# Altium footprint library adafruit.PCBLIB: 643 footprints (part 37 of 41)
Each footprint in its own frame and in the unit in brackets; x right, y up, seen from the top. Pads: shape width x height; smd on the part's side, far side on the other; paste and mask are expansions set on the pad; w line width, h text height; cw(c..) or ccw(c..) is an arc to the next point about the centre after c.
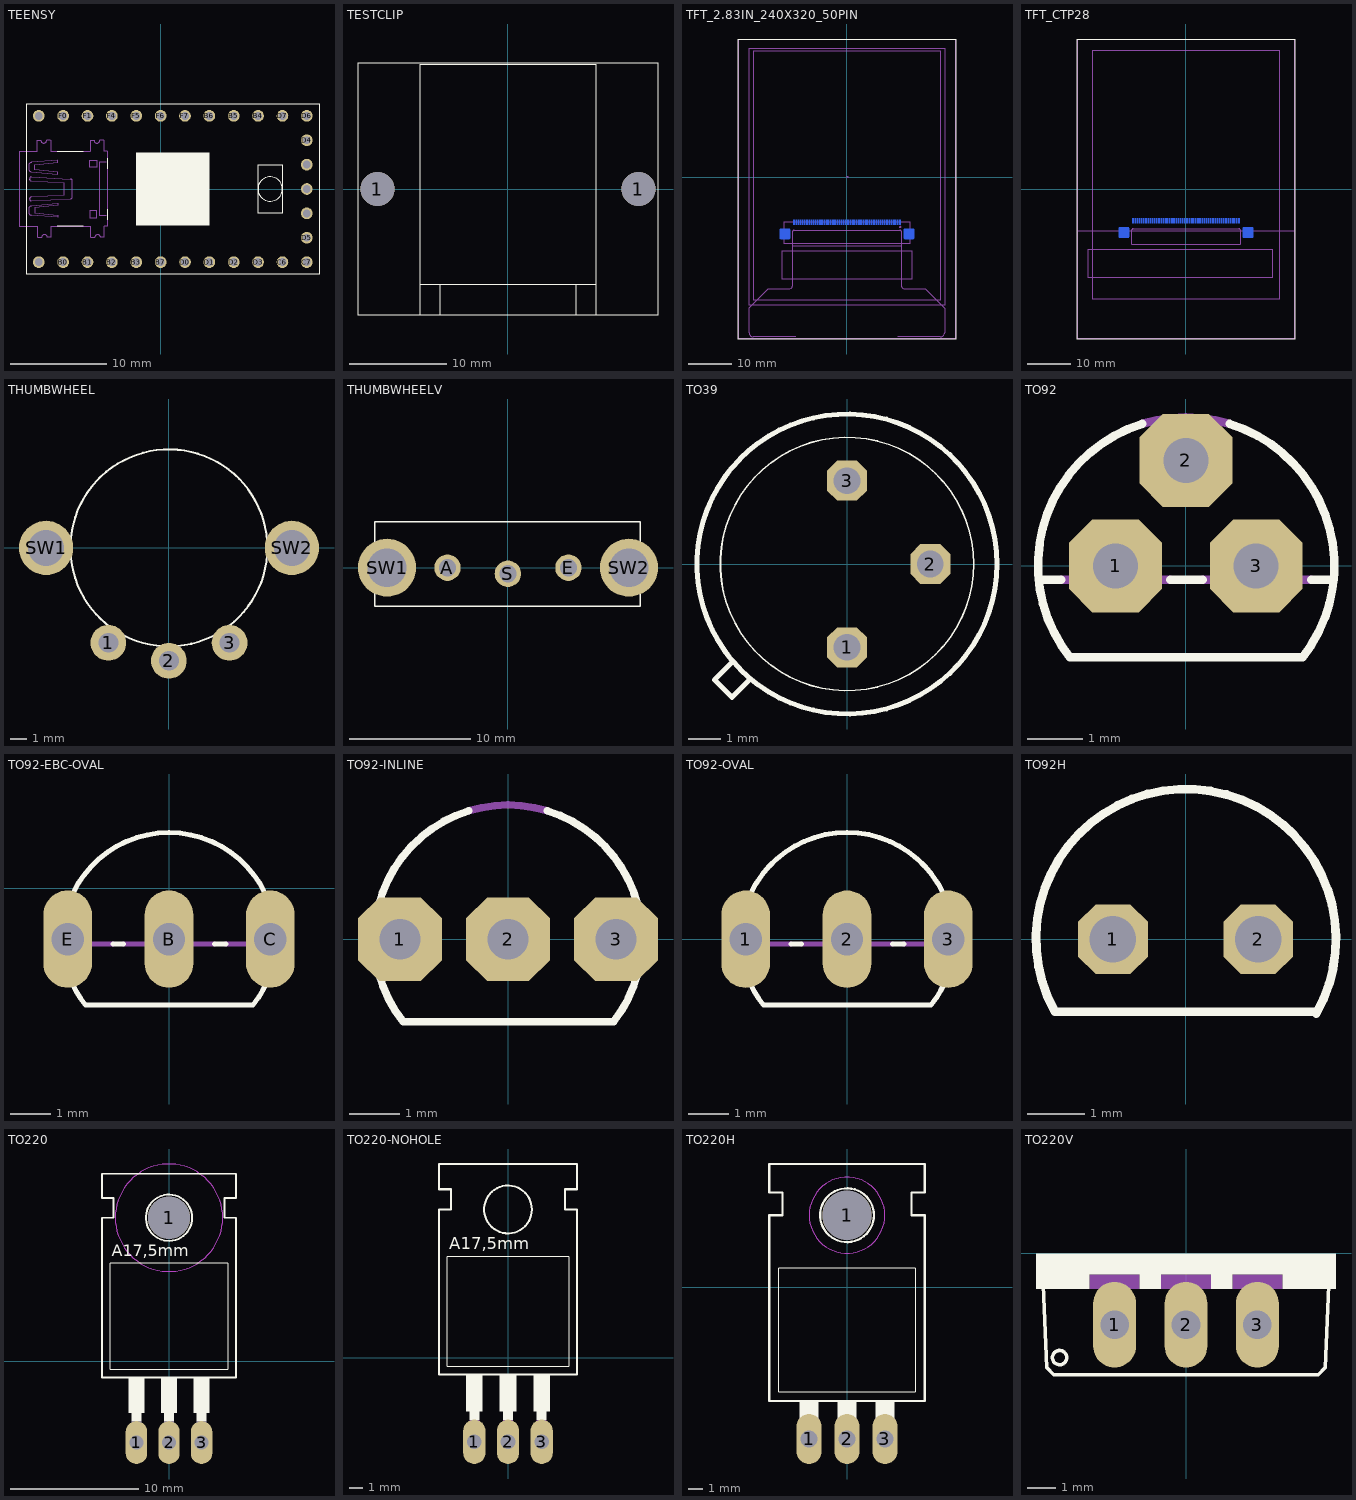
[diagram p36: the footprints below, top view; thin cyan lines are the x and y axes]

## TEENSY [mil]
pads (29):
  round 48 hole 32: B0(-400,-300) B1(-300,-300) B2(-200,-300) B3(-100,-300) B4(400,300) B5(300,300) B6(200,300) B7(0,-300) C6(500,-300) C7(600,-300) D0(100,-300) D1(200,-300) D2(300,-300) D3(400,-300) D4(600,200) D5(600,-200) D6(600,300) D7(500,300) F0(-400,300) F1(-300,300) F4(-200,300) F5(-100,300) F6(0,300) F7(100,300) GND(-500,-300) GND2(600,0) RST(600,100) VCC(600,-100) VCC1(-500,300)
Top Overlay:
  circle w5: c450,0 r50
  rectangle: -100,-150 200,150
  lines w4: -538.04,41 -538.04,41
  lines w5: -423.62,-153.54 -317.32,-153.54 ; -423.62,154 -317.32,154 ; -218.9,-125.98 -218.9,-82.68 ; -218.9,83 -218.9,126 ; -550,-350 650,-350 650,350 -550,350 -550,-350 ; 400,-100 500,-100 500,100 400,100 400,-100
Courtyard Bottom:
  lines w4: -505.49,154 -505.49,200 ; -505.12,200 -491.34,200 ccw(c-479.53,200) -467.72,200 -451.97,200 ; -504.69,-198.03 -504.69,-152.76 ; -503.94,-198.82 -488.19,-198.82 cw(c-476.38,-198.82) -464.57,-198.82 -450.79,-198.82 ; -451.21,154 -451.21,200 ; -450.42,-198.03 -450.42,-152.76 ; -287.38,154 -287.38,200 ; -287.01,200 -273.23,200 ccw(c-261.42,200) -249.61,200 -233.86,200 ; -286.58,-198.03 -286.58,-152.76 ; -285.83,-198.82 -270.08,-198.82 cw(c-258.27,-198.82) -246.46,-198.82 -232.68,-198.82 ; -233.1,154 -233.1,200 ; -232.31,-198.03 -232.31,-152.76 ; -222.83,-108.27 -252.36,-108.27 -252.36,109 -222.83,109 ; -540.08,-100.14 ccw(c-528.98,-96.74) -529.86,-108.31 -421.54,-116.49 -421.54,-108.31 -515.56,-98.1 -515.56,-77.66 -421.54,-67.44 -421.54,-59.26 -529.86,-69.48 ccw(c-528.98,-81.06) -540.08,-77.66 ccw(c-503.42,-88.9) -540.08,-100.14 ; -540.08,78 cw(c-502.58,89.5) -540.08,101 cw(c-529.11,97.52) -529.86,109 -421.54,117 -421.54,109 -515.56,99 -515.56,78 -421.54,68 -421.54,60 -529.86,70 cw(c-529.11,81.48) -540.08,78 ; -538.04,-40.87 ccw(c-529.86,-40.87) -529.86,-49.04 -370.44,-40.87 ccw(c-370.92,-32.22) -362.27,-32.69 -362.27,33 ccw(c-370.81,32.44) -370.44,41 -529.86,50 ccw(c-529.45,41.41) -538.04,41 ccw(c-529.95,41.09) -529.86,33 -394.97,25 -394.97,-24.52 -529.86,-32.69 ccw(c-529.86,-40.87) -538.04,-40.87 ; -291.73,-118.11 -291.73,-88.58 -262.2,-88.58 -262.2,-118.11 -291.73,-118.11 ; -291.73,89 -262.2,89 -262.2,119 -291.73,119 -291.73,89
  lines w5: -581.1,-153.54 -506.3,-153.54 ; -581.1,154 -506.3,154 ; -450.79,154 -289.37,154 ; -448.82,-153.54 -287.4,-153.54 ; -232.68,154 -218.9,154 ; -230.71,-153.54 -218.9,-153.54
Mech43:
  lines w5: -581.1,-153.54 -581.1,154 ; -218.9,-153.54 -218.9,154

## TESTCLIP [mil]
pads (2):
  round 138 hole 138: 1(-527.56,0) 1(528,0)
Top Overlay:
  lines w5: -354.33,-507.87 -606.3,-507.87 -606.3,508 607,508 607,-507.87 355,-507.87 ; -354.33,-507.87 -275.59,-507.87 ; -354.33,-507.87 -354.33,-385.83 ; -354.33,-385.83 -354.33,504 355,504 355,-385.83 ; -354.33,-385.83 -275.59,-385.83 ; -275.59,-507.87 276,-507.87 ; -275.59,-507.87 -275.59,-385.83 ; -275.59,-507.87 276,-507.87 ; -275.59,-385.83 276,-385.83 ; 276,-507.87 355,-507.87 ; 276,-507.87 276,-385.83 ; 276,-385.83 355,-385.83 ; 355,-507.87 355,-385.83

## TFT_2.83IN_240X320_50PIN [mil]
pads (52):
  rect 11x48 smd far side: 1(483,-409.06) 2(463,-409.06) 3(443,-409.06) 4(424,-409.06) 5(404,-409.06) 6(384,-409.06) 7(365,-409.06) 8(345,-409.06) 9(325,-409.06) 10(306,-409.06) 11(286,-409.06) 12(266,-409.06) 13(247,-409.06) 14(227,-409.06) 15(207,-409.06) 16(188,-409.06) 17(168,-409.06) 18(148,-409.06) 19(128,-409.06) 20(109,-409.06) 21(89,-409.06) 22(69,-409.06) 23(50,-409.06) 24(30,-409.06) 25(10,-409.06) 26(-9.84,-409.06) 27(-29.53,-409.06) 28(-49.21,-409.06) 29(-68.9,-409.06) 30(-88.58,-409.06) 31(-108.27,-409.06) 32(-127.95,-409.06) 33(-147.64,-409.06) 34(-167.32,-409.06) 35(-187.01,-409.06) 36(-206.69,-409.06) 37(-226.38,-409.06) 38(-246.06,-409.06) 39(-265.75,-409.06) 40(-285.43,-409.06) 41(-305.12,-409.06) 42(-324.8,-409.06) 43(-344.49,-409.06) 44(-364.17,-409.06) 45(-383.86,-409.06) 46(-403.54,-409.06) 47(-423.23,-409.06) 48(-442.91,-409.06) 49(-462.6,-409.06) 50(-482.28,-409.06)
  rrect25% 95x95 smd far side: PAD1(565,-515.35) PAD2(-564.96,-515.35)
Top Overlay:
  lines w5: -988.19,-1472.44 989,-1472.44 989,1260 -988.19,1260 -988.19,-1472.44
Bottom Overlay:
  lines w5: -582.68,-574.41 -582.68,-609.84 583,-609.84 583,-574.41 ; -582.68,-456.3 -582.68,-405.12 -500,-405.12 ; 497,-405.12 583,-405.12 583,-456.3
Bottom Solder:
  rectangle: -488.19,-435.04 -476.38,-383.86
  rectangle: -468.5,-435.04 -456.69,-383.86
  rectangle: -448.82,-435.04 -437.01,-383.86
  rectangle: -409.45,-435.04 -397.64,-383.86
  rectangle: -429.13,-435.04 -417.32,-383.86
  rectangle: -389.76,-435.04 -377.95,-383.86
  rectangle: -370.08,-435.04 -358.27,-383.86
  rectangle: -350.39,-435.04 -338.58,-383.86
  rectangle: -330.71,-435.04 -318.9,-383.86
  rectangle: -291.34,-435.04 -279.53,-383.86
  rectangle: -311.02,-435.04 -299.21,-383.86
  rectangle: -271.65,-435.04 -259.84,-383.86
  rectangle: -251.97,-435.04 -240.16,-383.86
  rectangle: -232.28,-435.04 -220.47,-383.86
  rectangle: -212.6,-435.04 -200.79,-383.86
  rectangle: -173.23,-435.04 -161.42,-383.86
  rectangle: -192.91,-435.04 -181.1,-383.86
  rectangle: -153.54,-435.04 -141.73,-383.86
  rectangle: -133.86,-435.04 -122.05,-383.86
  rectangle: -114.17,-435.04 -102.36,-383.86
  rectangle: -94.49,-435.04 -82.68,-383.86
  rectangle: -55.12,-435.04 -43.31,-383.86
  rectangle: -74.8,-435.04 -62.99,-383.86
  rectangle: -35.43,-435.04 -23.62,-383.86
  rectangle: -15.75,-435.04 -3.94,-383.86
  rectangle: 4,-435.04 16,-383.86
  rectangle: 24,-435.04 36,-383.86
  rectangle: 63,-435.04 75,-383.86
  rectangle: 44,-435.04 56,-383.86
  rectangle: 83,-435.04 95,-383.86
  rectangle: 103,-435.04 115,-383.86
  rectangle: 123,-435.04 134,-383.86
  rectangle: 142,-435.04 154,-383.86
  rectangle: 182,-435.04 193,-383.86
  rectangle: 162,-435.04 174,-383.86
  rectangle: 201,-435.04 213,-383.86
  rectangle: 221,-435.04 233,-383.86
  rectangle: 241,-435.04 252,-383.86
  rectangle: 260,-435.04 272,-383.86
  rectangle: 300,-435.04 312,-383.86
  rectangle: 280,-435.04 292,-383.86
  rectangle: 319,-435.04 331,-383.86
  rectangle: 339,-435.04 351,-383.86
  rectangle: 359,-435.04 371,-383.86
  rectangle: 378,-435.04 390,-383.86
  rectangle: 418,-435.04 430,-383.86
  rectangle: 398,-435.04 410,-383.86
  rectangle: 438,-435.04 449,-383.86
  rectangle: 457,-435.04 469,-383.86
  rectangle: 477,-435.04 489,-383.86
Dimensions Top:
  region: 0,0 10,0 10,10 0,10
Courtyard Bottom:
  lines w5: -464.57,-1452.76 -476.38,-1452.76 -854.33,-1452.76 cw(c-854.33,-1417.32) -889.76,-1417.32 -889.76,-1188.98 -716.54,-1015.75 -531.5,-1015.75 ccw(c-531.5,-976.38) -492.13,-976.38 -492.13,-622.05 ; 461,-1452.76 851,-1452.76 ccw(c850.82,-1413.57) 890,-1413.39 890,-1192.91 713,-1015.75 705,-1015.75 528,-1015.75 cw(c528.22,-980.53) 493,-980.31 493,-622.05 ; -492.13,-622.05 -492.13,-492.13 cw(c-480.31,-492.13) -480.31,-480.31 481,-480.31 cw(c481.09,-492.22) 493,-492.13 493,-622.05 ; -492.13,-622.05 493,-622.05 ; -984.25,-1468.5 985,-1468.5 985,1256 -984.25,1256 -984.25,-1468.5 ; -889.76,-1163.39 890,-1163.39 890,1174 -889.76,1174 -889.76,-1163.39 ; -850.39,-1117.32 851,-1117.32 851,1151 -850.39,1151 -850.39,-1117.32 ; -590.55,-926.77 591,-926.77 591,-669.29 -590.55,-669.29 -590.55,-926.77
  text "2.83\" 240x320" at 0,48 h77.5
  text "TFT LCD Display" at 0,-59.06 h77.5
  text "50" at -440.94,-657.48 h34
  text "1" at 457,-657.48 h34
  text "XL" at -767.72,0 h56.1
  text "XR" at 768,0 h56.1
  text "YU" at 0,1083 h56.1
  text "YD" at 0,-1062.99 h56.1
  text "Suggested Cutout Zone" at 0,-885.83 h49.6
  text "Captouch chip" at 350,-1300 h77.5
Mech43:
  lines w5: 485,-448.43 489,-452.36 ; 489,-452.36 477,-452.36 485,-444.49 493,-452.36 489,-452.36 ; -576.77,-605.91 -576.77,-409.06 577,-409.06 577,-605.91 -576.77,-605.91

## TFT_CTP28 [mil]
pads (52):
  rect 11x48 smd far side: 1(483,-289.76) 2(463,-289.76) 3(443,-289.76) 4(424,-289.76) 5(404,-289.76) 6(384,-289.76) 7(365,-289.76) 8(345,-289.76) 9(325,-289.76) 10(306,-289.76) 11(286,-289.76) 12(266,-289.76) 13(247,-289.76) 14(227,-289.76) 15(207,-289.76) 16(188,-289.76) 17(168,-289.76) 18(148,-289.76) 19(128,-289.76) 20(109,-289.76) 21(89,-289.76) 22(69,-289.76) 23(50,-289.76) 24(30,-289.76) 25(10,-289.76) 26(-9.84,-289.76) 27(-29.53,-289.76) 28(-49.21,-289.76) 29(-68.9,-289.76) 30(-88.58,-289.76) 31(-108.27,-289.76) 32(-127.95,-289.76) 33(-147.64,-289.76) 34(-167.32,-289.76) 35(-187.01,-289.76) 36(-206.69,-289.76) 37(-226.38,-289.76) 38(-246.06,-289.76) 39(-265.75,-289.76) 40(-285.43,-289.76) 41(-305.12,-289.76) 42(-324.8,-289.76) 43(-344.49,-289.76) 44(-364.17,-289.76) 45(-383.86,-289.76) 46(-403.54,-289.76) 47(-423.23,-289.76) 48(-442.91,-289.76) 49(-462.6,-289.76) 50(-482.28,-289.76)
  rrect25% 95x95 smd far side: PAD1(565,-396.06) PAD2(-564.96,-396.06)
Top Overlay:
  lines w5: -988.19,-1366.14 989,-1366.14 989,1367 -988.19,1367 -988.19,-1366.14
Bottom Overlay:
  region: 0,0 10,0 10,10 0,10
  lines w5: -582.68,-455.12 -582.68,-490.55 583,-490.55 583,-455.12 ; -582.68,-337.01 -582.68,-285.83 -500,-285.83 ; 497,-285.83 583,-285.83 583,-337.01
Courtyard Bottom:
  lines w5: -984.25,-377.95 -984.25,-1362.2 985,-1362.2 985,-377.95 ; -984.25,-377.95 -984.25,1363 985,1363 985,-377.95 ; -984.25,-377.95 985,-377.95 ; -890.55,-807.48 788,-807.48 788,-550 -890.55,-550 -890.55,-807.48 ; -850.39,-1003.94 851,-1003.94 851,1264 -850.39,1264 -850.39,-1003.94 ; -492.13,-502.76 -492.13,-372.83 cw(c-480.31,-372.83) -480.31,-361.02 481,-361.02 cw(c481.09,-372.93) 493,-372.83 493,-502.76 -492.13,-502.76
  text "2.83\"" at 0,1142.3 h102.3
  text "240x320 Display" at 0,1040 h102.3
  text "Capacitive Touch Panel" at 0,827 h102.3
  text "50" at -440.94,-538.19 h34
  text "1" at 457,-538.19 h34
  text "Suggested Cutout Zone" at 0,-766.54 h49.6

## THUMBWHEEL [mil]
pads (5):
  round 86 hole 48: 1(-145.67,-228.35) 2(0,-271.65) 3(146,-228.35)
  round 130.5 hole 87: SW1(-295.28,0) SW2(296,0)
Top Overlay:
  circle w5: c0,0 r237

## THUMBWHEELV [mil]
pads (5):
  round 86 hole 56: A(-196.85,0) E(197,0) S(0,-19.68)
  round 189 hole 126: SW1(-393.7,0) SW2(394,0)
Top Overlay:
  lines w5: -433.07,-125.98 -433.07,150 430,150 430,-125.98 -433.07,-125.98

## TO39 [mil]
pads (3):
  oct 48x48 hole 32: 1(0,-100) 2(100,0) 3(0,100)
Top Overlay:
  circle w6: c0,0 r180
  circle w2: c0,0 r152
  lines w6: -138,-118 -159,-139 -138,-160 -117,-139

## TO92 [mil]
pads (3):
  oct 66x66 hole 32: 1(-50,0) 2(0,75) 3(50,0)
Top Overlay:
  lines w6: -104.53,-10 -88.74,-10 ; -30.98,101 ccw(c0.21,0.33) -82.48,-65 83,-65 ccw(c0.06,0.16) 31,101 ; -11.26,-10 12,-10 ; 89,-10 105,-10
Courtyard Bottom:
  lines w6: -88.74,-10 -11.26,-10 ; -30.96,101 cw(c0.02,0.61) 31,101 ; 12,-10 89,-10

## TO92-EBC-OVAL [mil]
pads (3):
  oval 48x96 hole 32: B(0,-50) C(100,-50) E(-100,-50)
Top Overlay:
  lines w5: -95.02,-94.72 ccw(c-0.02,-50) -82.48,-115 83,-115 ccw(c0.55,-49.91) 96,-93.77 ; -95,-5.28 cw(c0,-50) 95,-5.28 ; -55.28,-55 -44.72,-55 ; 45,-55 56,-55
Courtyard Bottom:
  lines w5: -104.88,-55 -55.28,-55 ; -95,-94.72 cw(c0,-50) -95,-5.28 ; -44.72,-55 45,-55 ; 56,-55 105,-55 ; 95,-94.72 ccw(c0,-50) 95,-5.28

## TO92-INLINE [mil]
pads (3):
  oct 66x66 hole 32: 1(-85,0) 2(0,0) 3(85,0)
Top Overlay:
  lines w6: -104.53,-10 -88.74,-10 ; -82.48,-65 83,-65 ccw(c0.06,0.16) 31,101 ; -82.46,-65 cw(c0.23,0.33) -30.96,101 ; 89,-10 105,-10
Courtyard Bottom:
  lines w6: -30.96,101 cw(c0.02,0.6) 31,101

## TO92-OVAL [mil]
pads (3):
  oval 48x96 hole 32: 1(-100,0) 2(0,0) 3(100,0)
Top Overlay:
  lines w5: -95.02,-44.72 ccw(c-0.02,0) -82.48,-65 83,-65 ccw(c0.55,0.09) 96,-43.77 ; -95,45 cw(c0,0.28) 95,45 ; -55.28,-5 -44.72,-5 ; 45,-5 56,-5
Courtyard Bottom:
  lines w5: -104.88,-5 -55.28,-5 ; -95,-44.72 cw(c0.3,0.14) -95,45 ; -44.72,-5 45,-5 ; 56,-5 105,-5 ; 95,-44.72 ccw(c-0.3,0.14) 95,45

## TO92H [mil]
pads (2):
  oct 48x48 hole 32: 1(-50,0) 2(50,0)
Top Overlay:
  lines w6: 90,-51.08 ccw(c0.3,0.17) -90,-50 90,-50

## TO220 [mil]
pads (4):
  oval 66x132 hole 44: 1(-100,-250) 2(0,-250) 3(100,-250)
  round 130 hole 130: 1(0,440)
Top Overlay:
  circle w6: c0,440 r71
  rectangle: 85,-185 115,-160
  rectangle: -15,-185 15,-160
  rectangle: -115,-185 -85,-160
  rectangle: -125,-160 -75,-50
  rectangle: -25,-160 25,-50
  rectangle: 75,-160 125,-50
  lines w2: -180,-25 180,-25 180,300 -180,300 -180,-25
  lines w6: -205,-50 205,-50 205,440 170,440 170,500 205,500 205,575 -205,575 -205,500 -170,500 -170,440 -205,440 -205,-50
  text "A17,5mm" at -175,310 h62
Assembly Bottom keep-out:
  circle w0: c0,440 r165
Mechanical 10:
  circle w0: c0,440 r165
Courtyard Bottom:
  rectangle: -115,-260 -85,-185
  rectangle: -15,-260 15,-185
  rectangle: 85,-260 115,-185
  text "1" at -125,0 h77.5
  text "2" at -25,0 h77.5
  text "3" at 75,0 h77.5

## TO220-NOHOLE [mil]
pads (3):
  oval 66x132 hole 44: 1(-100,-250) 2(0,-250) 3(100,-250)
Top Overlay:
  circle w6: c0,440 r71
  rectangle: 85,-185 115,-160
  rectangle: -15,-185 15,-160
  rectangle: -115,-185 -85,-160
  rectangle: -125,-160 -75,-50
  rectangle: -25,-160 25,-50
  rectangle: 75,-160 125,-50
  lines w2: -180,-25 180,-25 180,300 -180,300 -180,-25
  lines w6: -205,-50 205,-50 205,440 170,440 170,500 205,500 205,575 -205,575 -205,500 -170,500 -170,440 -205,440 -205,-50
  text "A17,5mm" at -175,310 h62
Courtyard Bottom:
  rectangle: -115,-260 -85,-185
  rectangle: -15,-260 15,-185
  rectangle: 85,-260 115,-185
  text "1" at -125,0 h77.5
  text "2" at -25,0 h77.5
  text "3" at 75,0 h77.5

## TO220H [mil]
pads (4):
  oval 66x132 hole 44: 1(-100,-400) 2(0,-400) 3(100,-400)
  round 130 hole 130: 1(0,190)
Top Overlay:
  circle w6: c0,190 r71
  rectangle: 85,-435 115,-410
  rectangle: -15,-435 15,-410
  rectangle: -115,-435 -85,-410
  rectangle: -125,-410 -75,-300
  rectangle: -25,-410 25,-300
  rectangle: 75,-410 125,-300
  lines w2: -180,-275 180,-275 180,50 -180,50 -180,-275
  lines w6: -205,-300 205,-300 205,190 170,190 170,250 205,250 205,325 -205,325 -205,250 -170,250 -170,190 -205,190 -205,-300
Assembly Bottom keep-out:
  circle w0: c0,190 r100
Mechanical 10:
  circle w0: c0,190 r100

## TO220V [mil]
pads (3):
  oval 60x120 hole 40: 1(-100,-100) 2(0,-100) 3(100,-100)
Top Overlay:
  circle w5: c-177,-146 r10
  rectangle: -210,-30 210,0
  rectangle: -210,-50 -135,-30
  rectangle: -65,-50 -35,-30
  rectangle: 35,-50 65,-30
  rectangle: 135,-50 210,-30
  lines w5: -200,-45 -195,-160 -185,-170 185,-170 195,-160 200,-45
Courtyard Bottom:
  rectangle: -135,-50 -65,-30
  rectangle: -35,-50 35,-30
  rectangle: 65,-50 135,-30
  text "1" at -125,-125 h77.5
  text "2" at -25,-125 h77.5
  text "3" at 75,-125 h77.5